# Altium footprint library Pcb_Fuente.PcbLib: 1 footprints
Each footprint in its own frame and in the unit in brackets; x right, y up, seen from the top. Pads: shape width x height; smd on the part's side, far side on the other; paste and mask are expansions set on the pad; w line width, h text height; cw(c..) or ccw(c..) is an arc to the next point about the centre after c.
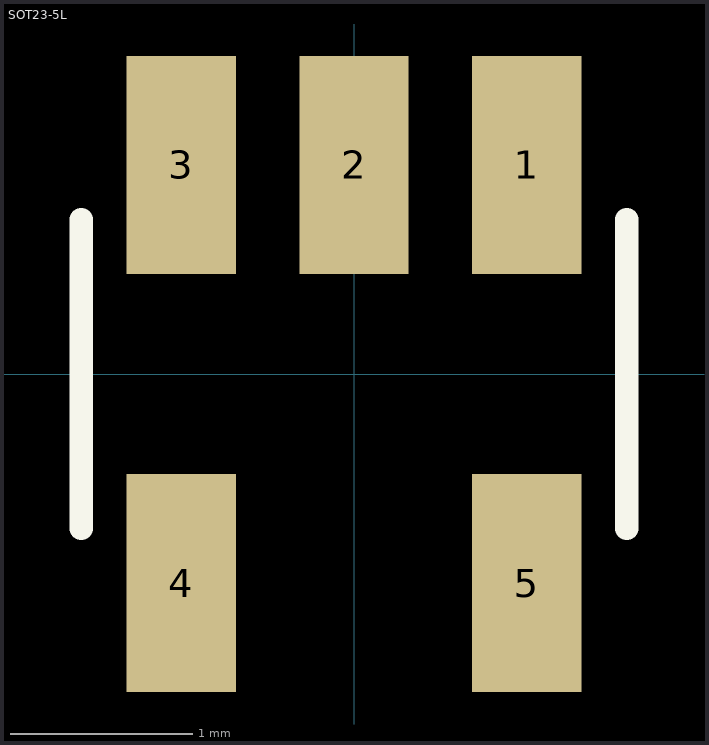
[diagram p0: the footprint, top view; thin cyan lines are the x and y axes]

## SOT23-5L [mm]
pads (5):
  rect 0.6x1.2 smd: 1(0.95,1.15) 2(0,1.15) 3(-0.95,1.15) 4(-0.95,-1.15) 5(0.95,-1.15)
Top Overlay:
  lines w0.127: -1.5,-0.85 -1.5,0.85 ; 1.5,-0.85 1.5,0.85